# EAGLE library part PIC16F720/721 (library BaseApp)
Digikey No :- __PIC16F721-I/SO-ND__
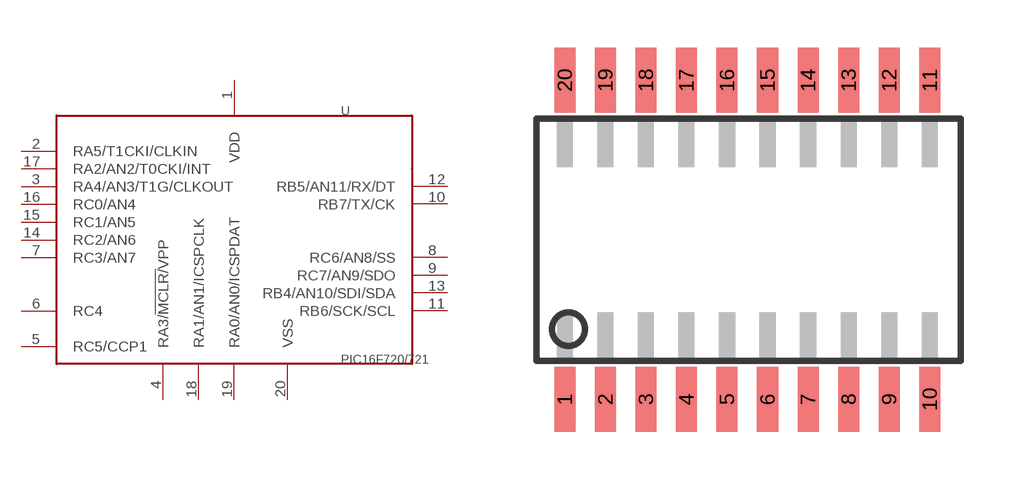
[diagram p36: symbol with the pads of SOIC-20; footprint SOIC-20]

Designator prefix -

## PIC16F720/721  [SOIC-20]
1  VDD
2  RA5/T1CKI/CLKIN
3  RA4/AN3/T1G/CLKOUT
4  RA3/!MCLR/!VPP
5  RC5/CCP1
6  RC4
7  RC3/AN7
8  RC6/AN8/SS
9  RC7/AN9/SDO
10  RB7/TX/CK
11  RB6/SCK/SCL
12  RB5/AN11/RX/DT
13  RB4/AN10/SDI/SDA
14  RC2/AN6
15  RC1/AN5
16  RC0/AN4
17  RA2/AN2/T0CKI/INT
18  RA1/AN1/ICSPCLK
19  RA0/AN0/ICSPDAT
20  VSS

## Footprint SOIC-20 (pad centres in mm)
smd 0.66 x 2.032: 1 -5.715,-5; 2 -4.445,-5; 3 -3.175,-5; 4 -1.905,-5; 5 -0.635,-5; 6 0.635,-5; 7 1.905,-5; 8 3.175,-5; 9 4.445,-5; 10 5.715,-5; 11 5.715,5; 12 4.445,5; 13 3.175,5; 14 1.905,5; 15 0.635,5; 16 -0.635,5; 17 -1.905,5; 18 -3.175,5; 19 -4.445,5; 20 -5.715,5